# Altium footprint library T-Block4 Terminal.PcbLib: 1 footprints
Each footprint in its own frame and in the unit in brackets; x right, y up, seen from the top. Pads: shape width x height; smd on the part's side, far side on the other; paste and mask are expansions set on the pad; w line width, h text height; cw(c..) or ccw(c..) is an arc to the next point about the centre after c.
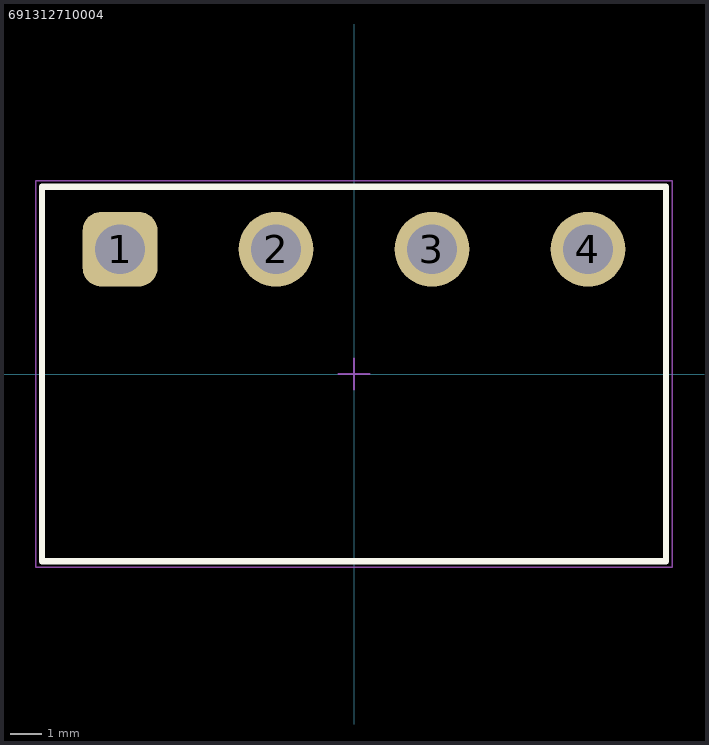
[diagram p0: the footprint, top view; thin cyan lines are the x and y axes]

## 691312710004 [mm] "5.00mm - Open Horizhontal PCB Header - 04p"
height 8.5
pads (4):
  rrect50% 2.4x2.4 hole 1.6: 1(-7.5,4)
  round 2.4 hole 1.6: 2(-2.5,4) 3(2.5,4) 4(7.5,4)
Top Overlay:
  lines w0.2: -10,-6 -10,6 10,6 10,-6 -10,-6
Top Designator:
  text ".Designator" at -7.498,-0.5 h1.5
Top Component Outline:
  lines w0.1: -10,-6 10,-6 10,6 -10,6 -10,-6
Top 3D Body:
  lines w0.1: -10,-6 -10,6 10,6 10,-6 -10,-6
Top Courtyard:
  lines w0.05: -0.5,0 0.5,0 ; 0,-0.5 0,0.5 ; -10.2,-6.2 -10.2,6.2 10.2,6.2 10.2,-6.2 -10.2,-6.2
3D body "691312710004.stp": height 8.55, standoff -3.45, extent -10,-6 10,6